# Altium schematic symbol library PCB_TCC.SchLib: 54 symbols
Pins are listed as number, name and electrical type; pins without a type are passive.

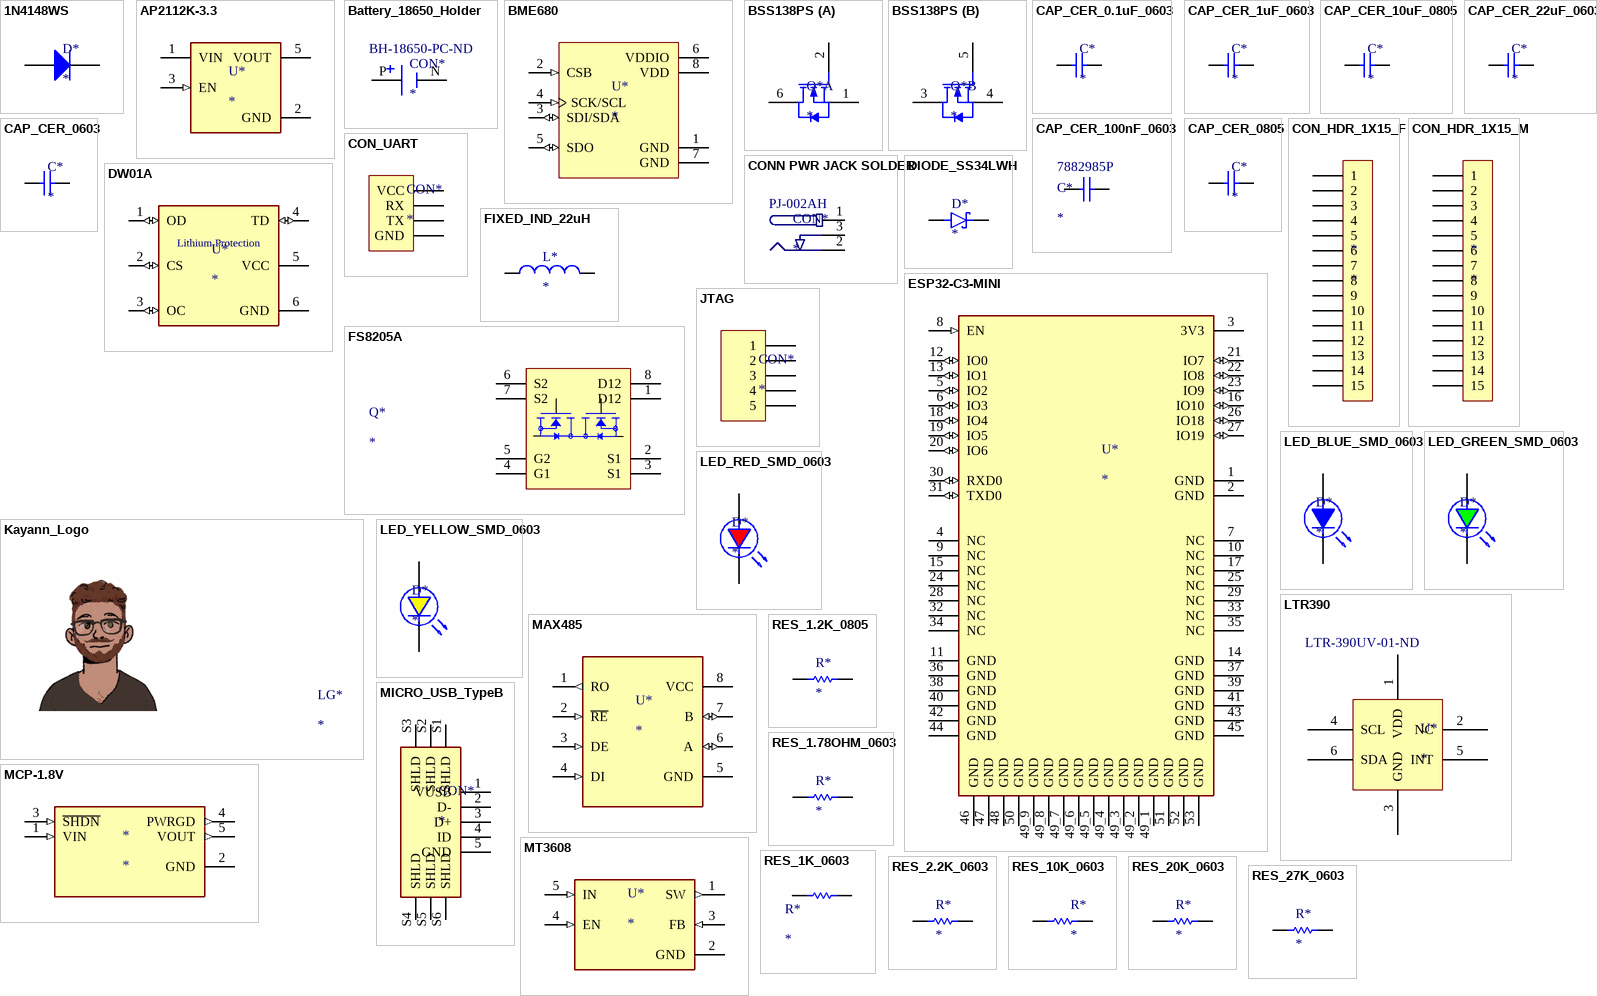
[diagram p0: symbols 1N4148WS to RES_27K_0603]

## 1N4148WS
designator D*
Supplier 1: Future Electronics; Supplier Part Number 1: 3369816
footprint 1N4148WS
pins: A, K

## AP2112K-3.3
designator U*
Supplier 1: Future Electronics; Supplier Part Number 1: 8043011
footprint AP2112K-3.3
pins: 1 VIN (power), 2 GND (power), 3 EN (in), 5 VOUT (power)

## Battery_18650_Holder
designator CON*  Supplier Part Number 1: BH-18650-PC-ND
Supplier 1: Digi-Key
footprint Battery_18650_Holder
pins: N NEG, P POS

## BME680
designator U*
Supplier 1: Digi-Key; Supplier Part Number 1: 828-1077-1-ND
footprint BME680 (Footprint not found)
pins: 1 GND (power), 2 CSB (in), 3 SDI/SDA (io), 4 SCK/SCL (in), 5 SDO (io), 6 VDDIO (power), 7 GND (power), 8 VDD (power)

## BSS138PS
designator Q*
Supplier 1: Arrow Electronics; Supplier Part Number 1: BSS138PS,115
footprint BSS138PS
part A pins: 1 S1, 2 G1, 6 D1
part B pins: 3 D2, 4 S2, 5 G2

## CAP_CER_0.1uF_0603
designator C*
Supplier 1: Digi-Key Marketplace; Supplier Part Number 1: 2571-GMC10X7R104J25NTTR-ND
footprint CAP_CER_0603
pins: 1, 2

## CAP_CER_1uF_0603
designator C*
Supplier 1: Arrow Electronics; Supplier Part Number 1: CL10B105KP8NNNC
footprint CAP_CER_0603
pins: 1, 2

## CAP_CER_10uF_0805
designator C*
Supplier 1: Arrow Electronics; Supplier Part Number 1: CL21A106KOQNNNE
footprint CAP_CER_0805
pins: 1, 2

## CAP_CER_22uF_0603
designator C*
Supplier 1: Newark; Supplier Part Number 1: 03AC2653
footprint CAP_CER_0603
pins: 1, 2

## CAP_CER_100nF_0603
designator C*  Supplier Part Number 1: 7882985P
Supplier 1: Rs
footprint CAP_CER_0603
pins: 1, 2

## CAP_CER_0603
designator C*
footprint CAP_CER_0603
pins: 1, 2

## CAP_CER_0805
designator C*
footprint CAP_CER_0805
pins: 1, 2

## CON_HDR_1X15_F
designator *
Supplier 1: DigiKey Marketplace; Supplier Part Number 1: 2553-2042-1X15G00SA-ND
footprint CON_HDR_1x15_F
pins: 1, 2, 3, 4, 5, 6, 7, 8, 9, 10, 11, 12, 13, 14, 15

## CON_HDR_1X15_M
designator *
Supplier 1: DigiKey Marketplace; Supplier Part Number 1: 2553-2011-1X15G00SJ026B-ND
footprint CON_HDR_1X15_M
pins: 1, 2, 3, 4, 5, 6, 7, 8, 9, 10, 11, 12, 13, 14, 15

## CON_UART
designator CON*
footprint CON_UART
pins: 1 VCC, 2 RX, 3 TX, 4 GND

## CONN PWR JACK SOLDER
designator CON*  Supplier Part Number 1: PJ-002AH
CONN PWR JACK 2X5.5MM SOLDER; Supplier 1: Arrow Electronics
footprint CONN_POWER_JACK
pins: 1, 2, 3

## DIODE_SS34LWH
designator D*
Supplier 1: Mouser; Supplier Part Number 1: 821-SS34LWHRVG
footprint DIODE_SS34LWH
pins: A, C K

## DW01A
designator U*
Supplier 1: LCSC; Supplier Part Number 1: C351410
footprint DW01A
pins: 1 OD (io), 2 CS (io), 3 OC (io), 4 TD (io), 5 VCC (power), 6 GND (power)
text: Lithium Protection

## ESP32-C3-MINI
designator U*
Supplier 1: Mouser; Supplier Part Number 1: 356-ESP32-C3-MINI1H4
footprint ESP32-C3-MINI (ESP32-C3-MINI-1-H4)
pins: 1 GND (power), 2 GND (power), 3 3V3 (power), 4 NC, 5 IO2 (io), 6 IO3 (io), 7 NC, 8 EN (in), 9 NC, 10 NC, 11 GND (power), 12 IO0 (io), 13 IO1 (io), 14 GND (power), 15 NC, 16 IO10 (io), 17 NC, 18 IO4 (io), 19 IO5 (io), 20 IO6 (io), 21 IO7 (io), 22 IO8 (io), 23 IO9 (io), 24 NC, 25 NC, 26 IO18 (io), 27 IO19 (io), 28 NC, 29 NC, 30 RXD0 (io), 31 TXD0 (io), 32 NC, 33 NC, 34 NC, 35 NC, 36 GND (power), 37 GND (power), 38 GND (power), 39 GND (power), 40 GND (power), 41 GND (power), 42 GND (power), 43 GND (power), 44 GND (power), 45 GND (power), 46 GND (power), 47 GND (power), 48 GND (power), 49_1 GND (power), 49_2 GND (power), 49_3 GND (power), 49_4 GND (power), 49_5 GND (power), 49_6 GND (power), 49_7 GND (power), 49_8 GND (power), 49_9 GND (power), 50 GND (power), 51 GND (power), 52 GND (power), 53 GND (power)

## FIXED_IND_22uH
designator L*
Supplier 1: Newark; Supplier Part Number 1: 52K7553
footprint FIXED_IND_22uH
pins: 1, 2

## FS8205A
designator Q*
footprint FS8205A
pins: 1 D12, 2 S1, 3 S1, 4 G1, 5 G2, 6 S2, 7 S2, 8 D12

## JTAG
designator CON*
footprint JTAG
pins: 1, 2, 3, 4, 5

## Kayann_Logo
designator LG*
footprint Kayann_Logo

## LED_BLUE_SMD_0603
designator D*
ComponentLink1Description: New link; ComponentLink1URL: *; Supplier 1: Digi-Key; Supplier Part Number 1: 754-1434-1-ND
footprint LED_BLUE_SMD_0603
pins: A, K

## LED_GREEN_SMD_0603
designator D*
Supplier 1: Digi-Key; Supplier Part Number 1: 754-1121-1-ND
footprint LED_GREEN_SMD_0603
pins: A, K

## LED_RED_SMD_0603
designator D*
Supplier 1: Digi-Key; Supplier Part Number 1: 754-1117-1-ND
footprint LED_RED_SMD_0603
pins: A, K

## LED_YELLOW_SMD_0603
designator D*
Supplier 1: Digi-Key; Supplier Part Number 1: 754-1124-1-ND
footprint LED_YELLOW_SMD_0603
pins: A, K

## LTR390
designator U*  Supplier Part Number 1: LTR-390UV-01-ND
Supplier 1: Digi-Key
footprint LTR390
pins: 1 VDD, 2 NC, 3 GND, 4 SCL, 5 INT, 6 SDA

## MAX485
designator U*
Supplier 1: Arrow Electronics; Supplier Part Number 1: MAX485ESA+T
footprint MAX485
pins: 1 RO (out), 2 ~{RE} (in), 3 DE (in), 4 DI (in), 5 GND (power), 6 A (io), 7 B (io), 8 VCC (power)

## MCP-1.8V
designator *
Supplier 1: Arrow Electronics; Supplier Part Number 1: MCP1824T-1802E/OT
footprint MCP-1.8V
pins: 1 VIN (in), 2 GND (power), 3 ~{SHDN} (in), 4 PWRGD (out), 5 VOUT (out)

## MICRO_USB_TypeB
designator CON*
Supplier 1: Avnet; Supplier Part Number 1: 10118193-0001LF
footprint MICRO_USB_TypeB
pins: 1 VUSB, 2 D-, 3 D+, 4 ID, 5 GND, S1 SHLD, S2 SHLD, S3 SHLD, S4 SHLD, S5 SHLD, S6 SHLD

## MT3608
designator U*
footprint MT3608
pins: 1 SW (out), 2 GND (power), 3 FB (in), 4 EN (in), 5 IN (in)

## RES_1.2K_0805
designator R*
Supplier 1: Newark; Supplier Part Number 1: 74AJ8198
footprint CAP_CER_0805
pins: 1, 2

## RES_1.78OHM_0603
designator R*
Supplier 1: Arrow Electronics; Supplier Part Number 1: RMCF0603FT1R78
footprint RES_0603
pins: 1, 2

## RES_1K_0603
designator R*
Supplier 1: Future Electronics; Supplier Part Number 1: 4016291
footprint RES_0603
pins: 1, 2

## RES_2.2K_0603
designator R*
Supplier 1: Future Electronics; Supplier Part Number 1: 3379294
footprint RES_0603
pins: 1, 2

## RES_10K_0603
designator R*
Supplier 1: Digi-Key Marketplace; Supplier Part Number 1: 2571-RM06J103CTTR-ND
footprint RES_0603
pins: 1, 2

## RES_20K_0603
designator R*
Supplier 1: Future Electronics; Supplier Part Number 1: 7472848
footprint RES_0603
pins: 1, 2

## RES_27K_0603
designator R*
Supplier 1: Future Electronics; Supplier Part Number 1: 6067715
footprint RES_0603
pins: 1, 2

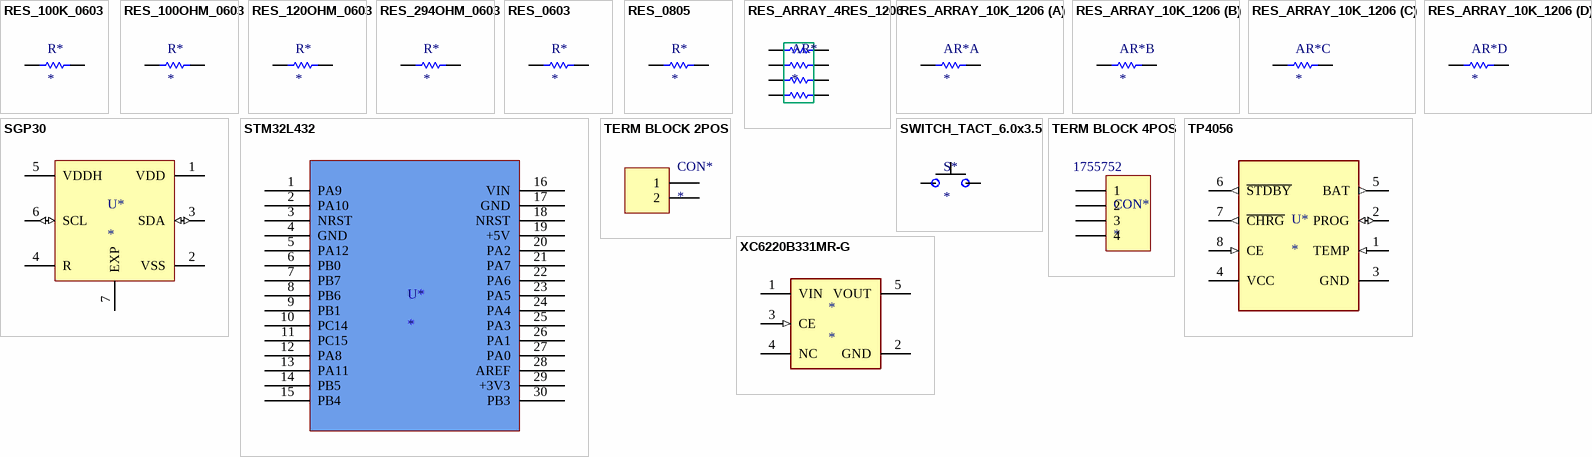
[diagram p1: symbols RES_100K_0603 to XC6220B331MR-G]

## RES_100K_0603
designator R*
Supplier 1: Future Electronics; Supplier Part Number 1: 3697448
footprint RES_0603
pins: 1, 2

## RES_100OHM_0603
designator R*
Supplier 1: Future Electronics; Supplier Part Number 1: 7334493
footprint RES_0603
pins: 1, 2

## RES_120OHM_0603
designator R*
Supplier 1: Future Electronics; Supplier Part Number 1: 7110726
footprint RES_0603
pins: 1, 2

## RES_294OHM_0603
designator R*
Supplier 1: Future Electronics; Supplier Part Number 1: 1327384
pins: 1, 2

## RES_0603
designator R*
footprint RES_0603
pins: 1, 2

## RES_0805
designator R*
footprint RES_0805
pins: 1, 2

## RES_ARRAY_4RES_1206
designator AR*
footprint RES_ARRAY _4RES_1206
pins: 1, 2, 3, 4, 5, 6, 7, 8

## RES_ARRAY_10K_1206
designator AR*
Supplier 1: Arrow Electronics; Supplier Part Number 1: CAY16-103J4LF
footprint RES_ARRAY _4RES_1206
part A pins: 1, 8
part B pins: 2, 7
part C pins: 3, 6
part D pins: 4, 5

## SGP30
designator U*
Supplier 1: Digi-Key; Supplier Part Number 1: 1649-1084-1-ND
footprint SGP30
pins: 1 VDD (power), 2 VSS (power), 3 SDA (io), 4 R, 5 VDDH (power), 6 SCL (io), 7 EXP (power)

## STM32L432
designator U*
footprint STM32L432
pins: 1 PA9, 2 PA10, 3 NRST, 4 GND, 5 PA12, 6 PB0, 7 PB7, 8 PB6, 9 PB1, 10 PC14, 11 PC15, 12 PA8, 13 PA11, 14 PB5, 15 PB4, 16 VIN, 17 GND, 18 NRST, 19 +5V, 20 PA2, 21 PA7, 22 PA6, 23 PA5, 24 PA4, 25 PA3, 26 PA1, 27 PA0, 28 AREF, 29 +3V3, 30 PB3

## SWITCH_TACT_6.0x3.5
designator S*
Supplier 1: Newark; Supplier Part Number 1: 35AH5169
footprint SWITCH_TACT_6.0x3.5
pins: 1, 2

## TERM BLOCK 2POS
designator CON*
Supplier 1: Newark; Supplier Part Number 1: 71C4161
footprint TERM BLOCK 2POS
pins: 1, 2

## TERM BLOCK 4POS
designator CON*  Supplier Part Number 1: 1755752
Supplier 1: Arrow Electronics
footprint TERM BLOCK 4POS
pins: 1, 2, 3, 4

## TP4056
designator U*
Manufacturer Part Number: TP4056; Supplier 1: LCSC; Supplier Part Number 1: C382139
footprint TP4056
pins: 1 TEMP (in), 2 PROG (io), 3 GND (power), 4 VCC (power), 5 BAT (out), 6 ~{STDBY} (out), 7 ~{CHRG} (out), 8 CE (in)

## XC6220B331MR-G
designator *
Supplier 1: Newark; Supplier Part Number 1: 84R0738
footprint XC6220B331MR-G
pins: 1 VIN (power), 2 GND (power), 3 CE (in), 4 NC (power), 5 VOUT (power)